# EAGLE library part MICRO-AB-MOLEX (library JK-connectors)
A Micro USB type AB connector made by Molex, generated by Jake Kapala.
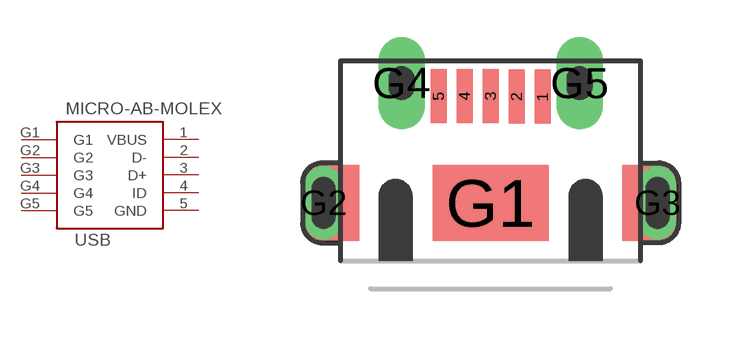
[diagram p0: symbol with the pads of MICRO-AB; footprint MICRO-AB]

Designator prefix USB

## MICRO-AB-MOLEX (GENERATOR: Jake Kapala; MANUFACTURER: Molex; MANUFACTURER_ID: 47590-0001; PINS: 5; TYPE: Micro-AB)  [MICRO-AB]
1  VBUS  pwr
2  D-
3  D+
4  ID
5  GND  sup
G1  G1  sup
G2  G2  sup
G3  G3  sup
G4  G4  sup
G5  G5  sup

## Footprint MICRO-AB (pad centres in mm)
0475900001, made by Molex.
smd 0.4 x 1.35: 1 1.3,2.657; 2 0.65,2.657; 3 0,2.675; 4 -0.65,2.675; 5 -1.3,2.675
smd 2.9 x 1.9: G1 0,0
drill 0.42 long: G2 -4.175,0; G3 4.175,0
drill 0.65 pad 0.85 long: G4 -2.225,3; G5 2.225,3